# EAGLE library part 621X0821821 (library Eagle_BOARD-TO-BOARD_CONNECTORS (rev18b))
WR-PHD 2.00mm Dual SMT Socket Header Low Profile, 8 Pins=>Code : Con_BTB_SHD_2.00_2_62100821821 <http://katalog.we-online.de/media/thumbs2/eican/thb_Con_BTB_SHD_2.00_2_6210xx21821_pf2.jpg> 6210xx21821 Details see: http://katalog.we-online.de/en/em/PHD_2_0_SMT_DUAL_SOCKET_HEADER_LOW_PROFILE_6210XX21821 6213xx21821 Details see: http://katalog.we-online.de/en/em/PHD_2_0_SMT_DUAL_SOCKET_HEADER_LOW_PROFILE_REEL_6213XX21821 Created 2014-06-03, Karrer Zheng 2014 (C) Würth Elektronik
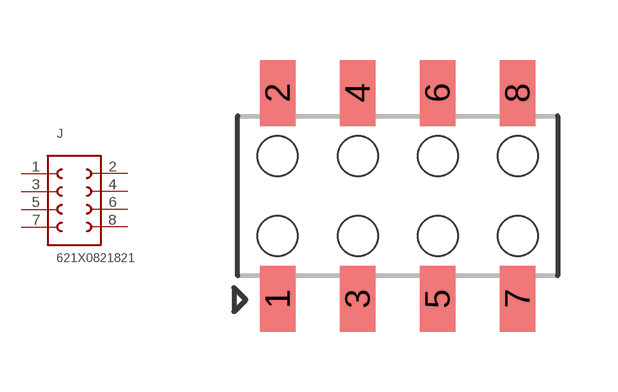
[diagram p265: symbol with the pads of 621X0821821; footprint 621X0821821]

Designator prefix J

## 621X0821821  [621X0821821]
1  1  pas
2  8  pas
3  2  pas
4  7  pas
5  3  pas
6  6  pas
7  4  pas
8  5  pas

## Footprint 621X0821821 (pad centres in mm)
WR-PHD 2.00mm Dual SMT Socket Header Low Profile, 8 Pins
smd 0.89 x 1.65: 1 -3,-2.575; 2 -3,2.575; 3 -1,-2.575; 4 -1,2.575; 5 1,-2.575; 6 1,2.575; 7 3,-2.575; 8 3,2.575
hole 1 at -3,1
hole 1 at -3,-1
hole 1 at -1,1
hole 1 at -1,-1
hole 1 at 1,-1
hole 1 at 1,1
hole 1 at 3,1
hole 1 at 3,-1